# Altium schematic symbol library port1.SchLib: 1 symbol
Pins are listed as number, name and electrical type; pins without a type are passive.

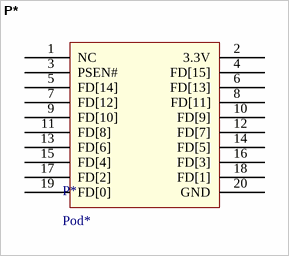
[diagram p0: symbol P*]

## P*
designator P*, comment Pod*
footprint Pin Header 20x2
pins: 1 NC, 2 3.3V, 3 PSEN#, 4 FD[15], 5 FD[14], 6 FD[13], 7 FD[12], 8 FD[11], 9 FD[10], 10 FD[9], 11 FD[8], 12 FD[7], 13 FD[6], 14 FD[5], 15 FD[4], 16 FD[3], 17 FD[2], 18 FD[1], 19 FD[0], 20 GND